# Altium schematic symbol library SCH-MCU-WCH-CH583M-QFN48-5X5.SchLib: 1 symbol
Pins are listed as number, name and electrical type; pins without a type are passive.

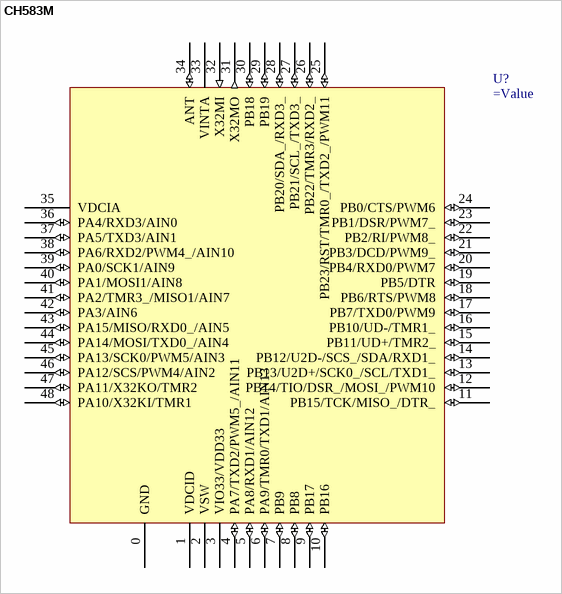
[diagram p0: symbol CH583M]

## CH583M
designator U?
pins: 0 GND (power), 1 VDCID (power), 2 VSW (power), 3 VIO33/VDD33 (power), 4 PA7/TXD2/PWM5_/AIN11 (io), 5 PA8/RXD1/AIN12 (io), 6 PA9/TMR0/TXD1/AIN13 (io), 7 PB9 (io), 8 PB8 (io), 9 PB17 (io), 10 PB16 (io), 11 PB15/TCK/MISO_/DTR_ (io), 12 PB14/TIO/DSR_/MOSI_/PWM10 (io), 13 PB13/U2D+/SCK0_/SCL/TXD1_ (io), 14 PB12/U2D-/SCS_/SDA/RXD1_ (io), 15 PB11/UD+/TMR2_ (io), 16 PB10/UD-/TMR1_ (io), 17 PB7/TXD0/PWM9 (io), 18 PB6/RTS/PWM8 (io), 19 PB5/DTR (io), 20 PB4/RXD0/PWM7 (io), 21 PB3/DCD/PWM9_ (io), 22 PB2/RI/PWM8_ (io), 23 PB1/DSR/PWM7_ (io), 24 PB0/CTS/PWM6 (io), 25 PB23/RST/TMR0_/TXD2_/PWM11 (io), 26 PB22/TMR3/RXD2_ (io), 27 PB21/SCL_/TXD3_ (io), 28 PB20/SDA_/RXD3_ (io), 29 PB19 (io), 30 PB18 (io), 31 X32MO (out), 32 X32MI (in), 33 VINTA (power), 34 ANT (io), 35 VDCIA (power), 36 PA4/RXD3/AIN0 (io), 37 PA5/TXD3/AIN1 (io), 38 PA6/RXD2/PWM4_/AIN10 (io), 39 PA0/SCK1/AIN9 (io), 40 PA1/MOSI1/AIN8 (io), 41 PA2/TMR3_/MISO1/AIN7 (io), 42 PA3/AIN6 (io), 43 PA15/MISO/RXD0_/AIN5 (io), 44 PA14/MOSI/TXD0_/AIN4 (io), 45 PA13/SCK0/PWM5/AIN3 (io), 46 PA12/SCS/PWM4/AIN2 (io), 47 PA11/X32KO/TMR2 (io), 48 PA10/X32KI/TMR1 (io)